# EAGLE library part 10 (library con)
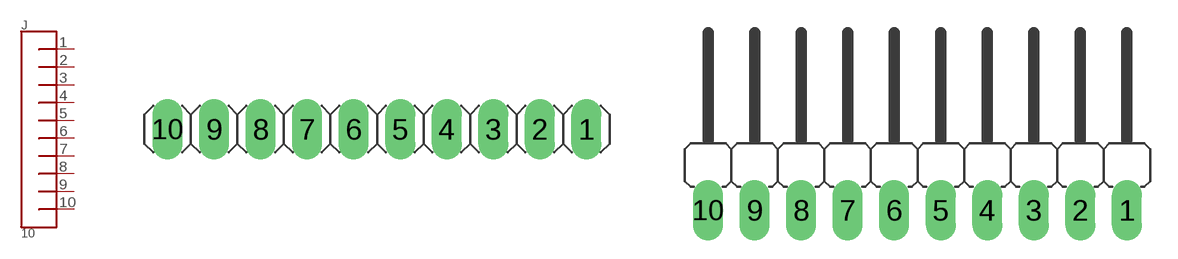
[diagram p2: symbol with the pads of CV10; footprints CV10, CV10W]

Designator prefix J

## 10-CV  [CV10]
1  1
2  2
3  3
4  4
5  5
6  6
7  7
8  8
9  9
10  10

## 10-CVW  [CV10W]
Pads as for CV10

## 10-CV_X2  [CV5X2]
Pads as for CV10

## Footprint CV10 (pad centres in mm)
drill 1.1 long: 1 11.43,0; 2 8.89,0; 3 6.35,0; 4 3.81,0; 5 1.27,0; 6 -1.27,0; 7 -3.81,0; 8 -6.35,0; 9 -8.89,0; 10 -11.43,0

## Footprint CV10W (pad centres in mm)
drill 1.1 long: 1 11.43,0; 2 8.89,0; 3 6.35,0; 4 3.81,0; 5 1.27,0; 6 -1.27,0; 7 -3.81,0; 8 -6.35,0; 9 -8.89,0; 10 -11.43,0

## Footprint CV5X2 (pad centres in mm)
drill 1.1 square: 1 5.08,1.27
drill 1.1 octagon: 2 5.08,-1.27; 3 2.54,1.27; 4 2.54,-1.27; 5 0,1.27; 6 0,-1.27; 7 -2.54,1.27; 8 -2.54,-1.27; 9 -5.08,1.27; 10 -5.08,-1.27